# EAGLE library part PTN5150AHXMP (library PTN5150AHXMP)
USB Controller USB Interface 12-X2QFN (1.6x1.6), 2.7V ~ 5.5V , 100 uA , -40C ~ 85C Source: Datasheet <https://www.nxp.com/products/PTN5150?linkline=Data Sheet#documentation>
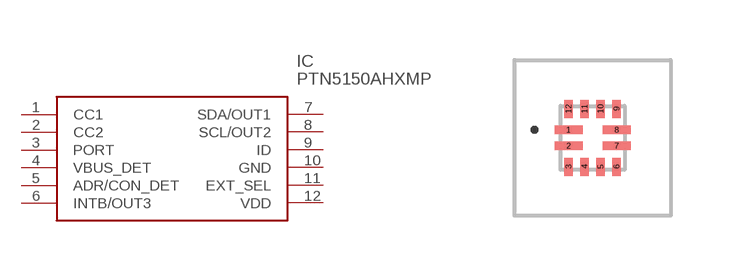
[diagram p0: symbol with the pads of PTN5150AHXMP; footprint PTN5150AHXMP]

Designator prefix IC

## PTN5150AHXMP (Description: USB Controller USB Interface 12-X2QFN (1.6x1.6), 2.7V ~ 5.5V , 100 uA , -40C ~ 85C; Height: 0.4mm; Manufacturer_Name: NXP; Manufacturer_Part_Number: PTN5150AHXMP; Mouser_Part_Number: 771-PTN5150AHXMP; Mouser_Price-Stock: https://www.mouser.co.uk/ProductDetail/NXP-Semiconductors/PTN5150AHXMP?qs=GIi83qBHgikdzCs4%252ByCwLg%3D%3D)  [PTN5150AHXMP]
1  CC1
2  CC2
3  PORT
4  VBUS_DET
5  ADR/CON_DET
6  INTB/OUT3
7  SDA/OUT1
8  SCL/OUT2
9  ID
10  GND
11  EXT_SEL
12  VDD

## Footprint PTN5150AHXMP (pad centres in mm)
SOT1355-1_2025
smd 0.7 x 0.22: 1 -0.6,0.2; 2 -0.6,-0.2; 7 0.6,-0.2; 8 0.6,0.2
smd 0.22 x 0.45: 3 -0.6,-0.725; 4 -0.2,-0.725; 5 0.2,-0.725; 6 0.6,-0.725; 9 0.6,0.725; 10 0.2,0.725; 11 -0.2,0.725; 12 -0.6,0.725